# Altium integrated library 2200uF 35V.IntLib: 1 symbol
Pins are listed as number, name and electrical type; pins without a type are passive.

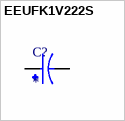
[diagram p0: symbol EEUFK1V222S]

## EEUFK1V222S
designator C?
AL LYTIC, RADIAL, 35VDC, 2200UF; MF: Panasonic; MP: EEUFK1V222S; Value: *; Package: RADIAL-2 Panasonic; Check_prices: https://www.snapeda.com/parts/EEUFK1V222S/Panasonic/view-part/5785570/?ref=eda; Price: None; Availability: In Stock; SnapEDA_Link: https://www.snapeda.com/parts/EEUFK1V222S/Panasonic/view-part/5785570/?ref=snap
footprint CAPPRD750W80D1800H2000
pins: N, P